# Altium schematic symbol library Inverting buck boost.SchLib: 104 symbols (part 5 of 9)
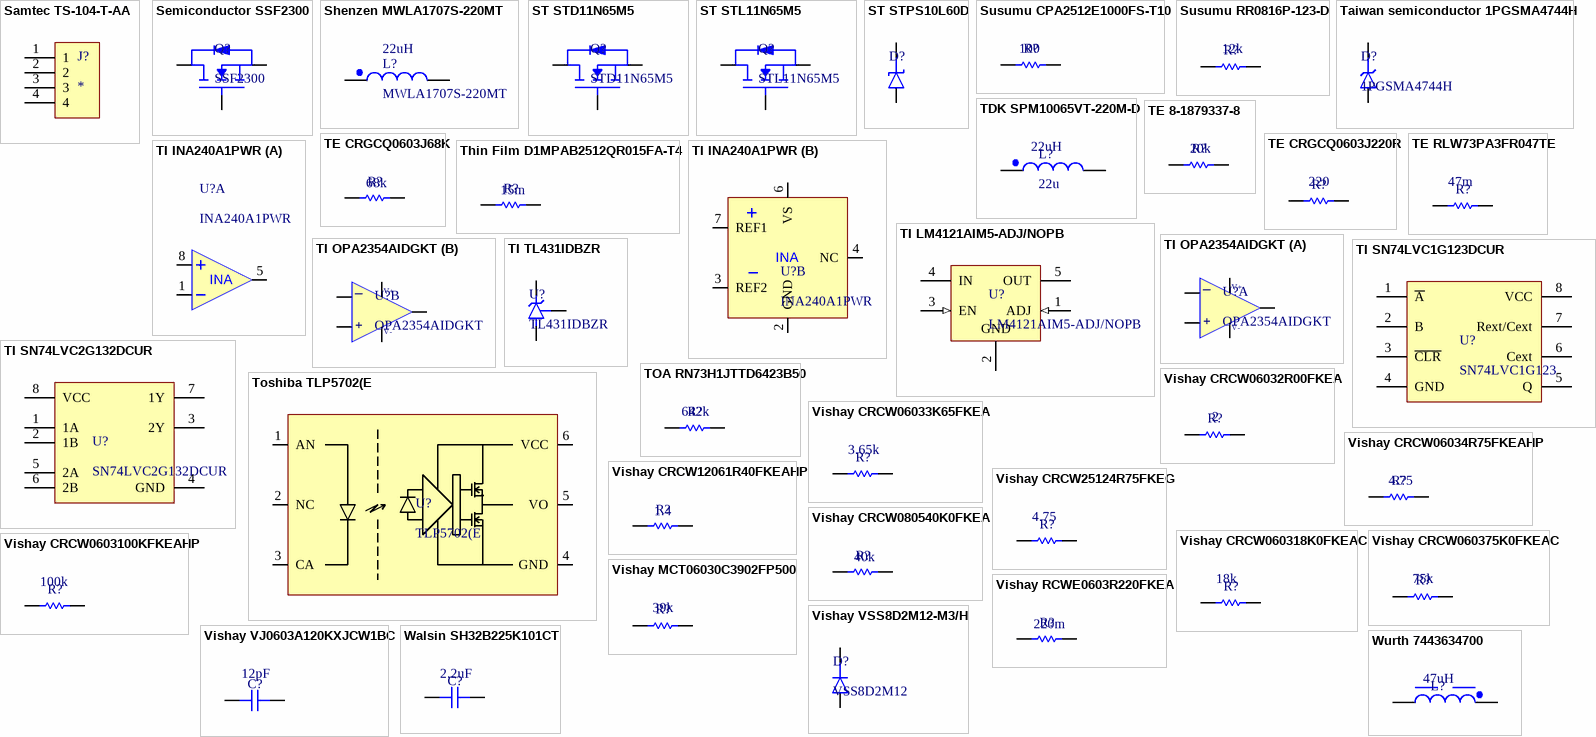
[diagram p6: symbols Samtec TS-104-T-AA to Wurth 7443634700]

## TI OPA2354AIDGKT
designator U?, comment OPA2354AIDGKT
250MHz, Rail-to-Rail I/O, CMOS Dual Operational Amplifier 8-VSSOP -40 to 125; Manufacturer: Texas Instruments; Manufacturer Part Number: OPA2354AIDGKR; Manufacturer Lifecycle Status: ACTIVE; Bandwidth: 100MHz; Common Mode Rejection Ratio: 56dB; Input Bias Current: 50pA; Input Offset Voltage (Vos): 8mV; Max Dual Supply Voltage: 2.75V; Max Supply Voltage: 5.5V; Min Dual Supply Voltage: 1.25V; Min Supply Voltage: 2.7V; Number of Amplifiers: 2; Operating Supply Current: 4.9mA; Operating Supply Voltage: 5V; Output Current per Channel: 100mA; Power Supply Rejection Ratio (PSRR): 73.98dB; Settling Time: 30ns; Slew Rate: 150V/µs; Voltage Gain: 110dB; Supplier: Arrow Electronics; Supplier Part Number: OPA2354AIDGKR; RoHS: Compliant; Category: Amplifiers - Op Amps, Buffer, Instrumentation; Stock: 405; Pricing: 1=3,4072, 10=2,642, 25=2,4277, 100=2,1887, 250=2,1187 (USD); -3db Bandwidth: 250MHz; Case/Package: VSSOP; Contact Plating: Gold; Gain Bandwidth Product: 100MHz; Height: 0m; Lead Free: Lead Free; Length: 3mm; Lifecycle Status: Production; Max I/O Voltage: 8mV; Max Operating Temperature: 125°C; Min Operating Temperature: -40°C; Number of Channels: 2; Number of Circuits: 2; Number of Elements: 2; Pins: 8; Packaging: Tape & Reel; Radiation Hardening: No; REACH SVHC: No; Schedule B: 8542330000, 8542330000|8542330000|8542330000|8542330000|8542330000; Thickness: 970µm; Weight: 25.996513mg; Width: 3mm; ComponentLink1URL: https://sigma.octopart.com:443/178522223/technical_drawing/Texas-Instruments-OPA2354AIDGKR.pdf?src-supplier=Texas+Instruments; ComponentLink1Description: https://sigma.octopart.com:443/178522223/technical_drawing/Texas-Instruments-OPA2354AIDGKR.pdf?src-supplier=Texas+Instruments; ComponentLink2URL: https://octopart.com:443/opatz8j6/c1?t=Pa_9qveCSp-teMjALlNzkgIwHySsEH1otGT4-ozlPtpgDBMeQt4RGdCXYLn_JCFP1QmrjeruCX46t5_9x1Vv_HMTe8N2kMCMJSKESAMrUlSEQkUUlvcrYWij36RLFxFIZ71Lc0yaeicxHxnXPoQU53aq-yWmIh8tbbINPdenUxvDlVVEa9B7WHzU_yp1bt2IvVJEFKXj11ElcUGRh8J0UxRLcVoULThUuFLrJzUTYUNzb_hUsr_lfzCjSS3L8z7PJpNcHNUUaHBHycr75X7YKBAE5ea9dFt3yqiIqO4iZzm6zpO_8qWc6W5q5mEQ-4UQhYYz8poDoqX8BFz8V-vYXWSk_wmgHIOJwbmA8UY43GJhW0_LIaHlWEHxuqfohlnhpKt4&src-supplier=Texas+Instruments; ComponentLink2Description: https://octopart.com:443/opatz8j6/c1?t=Pa_9qveCSp-teMjALlNzkgIwHySsEH1otGT4-ozlPtpgDBMeQt4RGdCXYLn_JCFP1QmrjeruCX46t5_9x1Vv_HMTe8N2kMCMJSKESAMrUlSEQkUUlvcrYWij36RLFxFIZ71Lc0yaeicxHxnXPoQU53aq-yWmIh8tbbINPdenUxvDlVVEa9B7WHzU_yp1bt2IvVJEFKXj11ElcUGRh8J0UxRLcVoULThUuFLrJzUTYUNzb_hUsr_lfzCjSS3L8z7PJpNcHNUUaHBHycr75X7YKBAE5ea9dFt3yqiIqO4iZzm6zpO_8qWc6W5q5mEQ-4UQhYYz8poDoqX8BFz8V-vYXWSk_wmgHIOJwbmA8UY43GJhW0_LIaHlWEHxuqfohlnhpKt4&src-supplier=Texas+Instruments; ComponentLink3URL: https://datasheet.octopart.com:443/OPA2354AIDGKR-Texas-Instruments-datasheet-148930.pdf?src-supplier=Texas+Instruments; ComponentLink3Description: https://datasheet.octopart.com:443/OPA2354AIDGKR-Texas-Instruments-datasheet-148930.pdf?src-supplier=Texas+Instruments; ComponentLink4URL: https://sigma.octopart.com:443/49250154/technical_drawing/Texas-Instruments-OPA2354AIDGKR.pdf?src-supplier=Texas+Instruments; ComponentLink4Description: https://sigma.octopart.com:443/49250154/technical_drawing/Texas-Instruments-OPA2354AIDGKR.pdf?src-supplier=Texas+Instruments; ComponentLink5URL: https://datasheet.octopart.com:443/OPA2354AIDGKR-Texas-Instruments-datasheet-65713369.pdf?src-supplier=Farnell; ComponentLink5Description: https://datasheet.octopart.com:443/OPA2354AIDGKR-Texas-Instruments-datasheet-65713369.pdf?src-supplier=Farnell; ComponentLink6URL: https://datasheet.octopart.com:443/OPA2354AIDGKR-Texas-Instruments-datasheet-11534205.pdf?src-supplier=HQonline; ComponentLink6Description: https://datasheet.octopart.com:443/OPA2354AIDGKR-Texas-Instruments-datasheet-11534205.pdf?src-supplier=HQonline; ComponentLink7URL: https://datasheet.octopart.com:443/OPA2354AIDGKR-Texas-Instruments-datasheet-159115581.pdf?src-supplier=LCSC; ComponentLink7Description: https://datasheet.octopart.com:443/OPA2354AIDGKR-Texas-Instruments-datasheet-159115581.pdf?src-supplier=LCSC; ComponentLink8URL: https://datasheet.octopart.com:443/OPA2354AIDGKR.-Texas-Instruments-datasheet-33010601.pdf?src-supplier=element14+APAC; ComponentLink8Description: https://datasheet.octopart.com:443/OPA2354AIDGKR.-Texas-Instruments-datasheet-33010601.pdf?src-supplier=element14+APAC; ComponentLink9URL: https://datasheet.octopart.com:443/OPA2354AIDGKR-Texas-Instruments-datasheet-21221028.pdf?src-supplier=Newark; ComponentLink9Description: https://datasheet.octopart.com:443/OPA2354AIDGKR-Texas-Instruments-datasheet-21221028.pdf?src-supplier=Newark; ComponentLink10URL: https://datasheet.octopart.com:443/OPA2354AIDGKR-Texas-Instruments-datasheet-21222707.pdf?src-supplier=Newark; ComponentLink10Description: https://datasheet.octopart.com:443/OPA2354AIDGKR-Texas-Instruments-datasheet-21222707.pdf?src-supplier=Newark; ComponentLink11URL: https://datasheet.octopart.com:443/OPA2354AIDGKR-Texas-Instruments-datasheet-14137483.pdf?src-supplier=iiiC; ComponentLink11Description: https://datasheet.octopart.com:443/OPA2354AIDGKR-Texas-Instruments-datasheet-14137483.pdf?src-supplier=iiiC; ComponentLink12URL: https://datasheet.octopart.com:443/OPA2354AIDGKR-Texas-Instruments-datasheet-11629923.pdf?src-supplier=Arrow+Electronics; ComponentLink12Description: https://datasheet.octopart.com:443/OPA2354AIDGKR-Texas-Instruments-datasheet-11629923.pdf?src-supplier=Arrow+Electronics; ComponentLink13URL: https://datasheet.octopart.com:443/OPA2354AIDGKR-Texas-Instruments-datasheet-111724.pdf?src-supplier=Sierra+IC; ComponentLink13Description: https://datasheet.octopart.com:443/OPA2354AIDGKR-Texas-Instruments-datasheet-111724.pdf?src-supplier=Sierra+IC; ComponentLink14URL: https://datasheet.octopart.com:443/OPA2354AIDGKR-Texas-Instruments-datasheet-38628.pdf?src-supplier=DigiKey; ComponentLink14Description: https://datasheet.octopart.com:443/OPA2354AIDGKR-Texas-Instruments-datasheet-38628.pdf?src-supplier=DigiKey; ComponentLink15URL: http://sigma.octopart.com:80/reach_statement/Texas-Instruments-company-64.pdf?src-supplier=Compliance+Statements; ComponentLink15Description: http://sigma.octopart.com:80/reach_statement/Texas-Instruments-company-64.pdf?src-supplier=Compliance+Statements; ComponentLink16URL: http://sigma.octopart.com:80/conflict_mineral_statement/Texas-Instruments-company-63.pdf?src-supplier=Compliance+Statements; ComponentLink16Description: http://sigma.octopart.com:80/conflict_mineral_statement/Texas-Instruments-company-63.pdf?src-supplier=Compliance+Statements
footprint TSOP, 8-Leads (Body 3.1x3.1mm, Pitch 0.65mm)
part A pins: 1 OUT, 2 IN+, 3 IN-, 4 V-, 8 V+
part B pins: 4 V-, 5 IN-, 6 IN+, 7 OUT, 8 V+
part A text: _; +
part B text: _; +

## TI SN74LVC1G123DCUR
designator U?, comment SN74LVC1G123
Single retriggerable monostable multivibrator with Schmitt-trigger inputs 8-VSSOP -40 to 125; Manufacturer: Texas Instruments; Manufacturer Part Number: SN74LVC1G123DCUR; Manufacturer Lifecycle Status: ACTIVE; High Level Output Current: -32mA; Independent Circuits: 1; Low Level Output Current: 32mA; Max Supply Current: 20µA; Max Supply Voltage: 5.5V; Min Supply Voltage: 1.5V; Number of Inputs: 2; Operating Supply Voltage: 5V; Output Current: 50mA; Propagation Delay: 8.2ns; Schmitt Trigger Input: Yes; Turn-On Delay Time: 18.6ns; Supplier: DigiKey; Supplier Part Number: 296-18578-1-ND; RoHS: Compliant; Category: Multivibrators; Pricing: 1=1,35, 10=0,979, 25=0,8868, 100=0,7857, 250=0,73748, 500=0,7191 (USD); Ambient Temperature Range High: 125°C; Case/Package: VSSOP; Contact Plating: Gold; Height: 900µm; Lead Free: Lead Free; Length: 2.3mm; Lifecycle Status: Production; Logic Function: Multivibrator; Max Operating Temperature: 125°C; Min Operating Temperature: -40°C; Mounting Technology: Surface Mount; Number of Bits: 1; Number of Channels: 1; Number of Circuits: 1; Number of Elements: 1; Number of Outputs: 1; Pins: 8; Packaging: Cut Tape; Quiescent Current: 20µA; Radiation Hardening: No; REACH SVHC: No; Schedule B: 8542390000, 8542390000|8542390000|8542390000|8542390000|8542390000|8542390000|8542390000|8542390000|8542390000|8542390000|8542390000|8542390000|8542390000|8542390000|8542390000|8542390000|8542390000|8542390000|8542390000|8542390000|8542390000|8542390000|8542390000|85; Thickness: 850µm; Weight: 9.610488mg; Width: 2mm; ComponentLink1URL: https://sigma.octopart.com:443/167215082/technical_drawing/Texas-Instruments-SN74LVC1G123DCUR.pdf?src-supplier=Texas+Instruments; ComponentLink1Description: https://sigma.octopart.com:443/167215082/technical_drawing/Texas-Instruments-SN74LVC1G123DCUR.pdf?src-supplier=Texas+Instruments; ComponentLink2URL: https://octopart.com:443/opatz8j6/c1?t=n_fj5RPNHgWJn-fIAghX4cny0sbFoMMjoesAMqocVMpXaQDqpBsjBT1GJKZBsxw_STcCp5G4kwnKmlBTyHV3O9PyOTB6O-nccl63CCh-Jzq2YYcs5B_OdZggVhRk2N_tuhYi8ZNUi7kwNjyKB0fMgoynCN9uNWe1hvWVLEQ6W185Sz4YeGwVA567UY9FzGdURNODUKoe1l6S4pdebDOplCzjyZH4KwSx6kPuk87sJlWbiIVW1AN5VQlF6jdha2zYaH4bePnb42lLDbuYH42-v4M-5hsJe31Qnxu0c94xEXvz2RKb29Iju4-DhIHoIrvsF3f5Cfn0tP11-Py_jycrA_EZkptVG4siqhKe7FjYdmgEw4Uf1H2m47JZ605DKYGK_CBTGz3HQw&src-supplier=Texas+Instruments; ComponentLink2Description: https://octopart.com:443/opatz8j6/c1?t=n_fj5RPNHgWJn-fIAghX4cny0sbFoMMjoesAMqocVMpXaQDqpBsjBT1GJKZBsxw_STcCp5G4kwnKmlBTyHV3O9PyOTB6O-nccl63CCh-Jzq2YYcs5B_OdZggVhRk2N_tuhYi8ZNUi7kwNjyKB0fMgoynCN9uNWe1hvWVLEQ6W185Sz4YeGwVA567UY9FzGdURNODUKoe1l6S4pdebDOplCzjyZH4KwSx6kPuk87sJlWbiIVW1AN5VQlF6jdha2zYaH4bePnb42lLDbuYH42-v4M-5hsJe31Qnxu0c94xEXvz2RKb29Iju4-DhIHoIrvsF3f5Cfn0tP11-Py_jycrA_EZkptVG4siqhKe7FjYdmgEw4Uf1H2m47JZ605DKYGK_CBTGz3HQw&src-supplier=Texas+Instruments; ComponentLink3URL: https://datasheet.octopart.com:443/SN74LVC1G123DCUR-Texas-Instruments-datasheet-10255335.pdf?src-supplier=Texas+Instruments; ComponentLink3Description: https://datasheet.octopart.com:443/SN74LVC1G123DCUR-Texas-Instruments-datasheet-10255335.pdf?src-supplier=Texas+Instruments; ComponentLink4URL: https://datasheet.octopart.com:443/SN74LVC1G123DCUR-Texas-Instruments-datasheet-149469.pdf?src-supplier=Texas+Instruments; ComponentLink4Description: https://datasheet.octopart.com:443/SN74LVC1G123DCUR-Texas-Instruments-datasheet-149469.pdf?src-supplier=Texas+Instruments; ComponentLink5URL: https://sigma.octopart.com:443/49249948/technical_drawing/Texas-Instruments-SN74LVC1G123DCUR.pdf?src-supplier=Texas+Instruments; ComponentLink5Description: https://sigma.octopart.com:443/49249948/technical_drawing/Texas-Instruments-SN74LVC1G123DCUR.pdf?src-supplier=Texas+Instruments; ComponentLink6URL: https://datasheet.octopart.com:443/SN74LVC1G123DCUR-Texas-Instruments-datasheet-21094337.pdf?src-supplier=Farnell; ComponentLink6Description: https://datasheet.octopart.com:443/SN74LVC1G123DCUR-Texas-Instruments-datasheet-21094337.pdf?src-supplier=Farnell; ComponentLink7URL: https://datasheet.octopart.com:443/SN74LVC1G123DCUR.-Texas-Instruments-datasheet-37730660.pdf?src-supplier=Farnell; ComponentLink7Description: https://datasheet.octopart.com:443/SN74LVC1G123DCUR.-Texas-Instruments-datasheet-37730660.pdf?src-supplier=Farnell; ComponentLink8URL: https://datasheet.octopart.com:443/SN74LVC1G123DCUR-Texas-Instruments-datasheet-32026718.pdf?src-supplier=Farnell; ComponentLink8Description: https://datasheet.octopart.com:443/SN74LVC1G123DCUR-Texas-Instruments-datasheet-32026718.pdf?src-supplier=Farnell; ComponentLink9URL: https://datasheet.octopart.com:443/SN74LVC1G123DCUR-Texas-Instruments-datasheet-17022321.pdf?src-supplier=Upverter; ComponentLink9Description: https://datasheet.octopart.com:443/SN74LVC1G123DCUR-Texas-Instruments-datasheet-17022321.pdf?src-supplier=Upverter; ComponentLink10URL: https://datasheet.octopart.com:443/SN74LVC1G123DCUR-Texas-Instruments-datasheet-62115999.pdf?src-supplier=element14+APAC; ComponentLink10Description: https://datasheet.octopart.com:443/SN74LVC1G123DCUR-Texas-Instruments-datasheet-62115999.pdf?src-supplier=element14+APAC; ComponentLink11URL: https://datasheet.octopart.com:443/SN74LVC1G123DCUR-Texas-Instruments-datasheet-33011000.pdf?src-supplier=element14+APAC; ComponentLink11Description: https://datasheet.octopart.com:443/SN74LVC1G123DCUR-Texas-Instruments-datasheet-33011000.pdf?src-supplier=element14+APAC; ComponentLink12URL: https://datasheet.octopart.com:443/SN74LVC1G123DCUR-Texas-Instruments-datasheet-10854746.pdf?src-supplier=Newark; ComponentLink12Description: https://datasheet.octopart.com:443/SN74LVC1G123DCUR-Texas-Instruments-datasheet-10854746.pdf?src-supplier=Newark; ComponentLink13URL: https://datasheet.octopart.com:443/SN74LVC1G123DCUR-Texas-Instruments-datasheet-7621638.pdf?src-supplier=Newark; ComponentLink13Description: https://datasheet.octopart.com:443/SN74LVC1G123DCUR-Texas-Instruments-datasheet-7621638.pdf?src-supplier=Newark; ComponentLink14URL: https://datasheet.octopart.com:443/SN74LVC1G123DCUR-Texas-Instruments-datasheet-5394187.pdf?src-supplier=Newark; ComponentLink14Description: https://datasheet.octopart.com:443/SN74LVC1G123DCUR-Texas-Instruments-datasheet-5394187.pdf?src-supplier=Newark; ComponentLink15URL: https://datasheet.octopart.com:443/SN74LVC1G123DCUR-Texas-Instruments-datasheet-159116636.pdf?src-supplier=LCSC; ComponentLink15Description: https://datasheet.octopart.com:443/SN74LVC1G123DCUR-Texas-Instruments-datasheet-159116636.pdf?src-supplier=LCSC; ComponentLink16URL: https://datasheet.octopart.com:443/SN74LVC1G123DCUR-Texas-Instruments-datasheet-151190429.pdf?src-supplier=SHENGYU+ELECTRONICS; ComponentLink16Description: https://datasheet.octopart.com:443/SN74LVC1G123DCUR-Texas-Instruments-datasheet-151190429.pdf?src-supplier=SHENGYU+ELECTRONICS; ComponentLink17URL: https://datasheet.octopart.com:443/SN74LVC1G123DCUR-Texas-Instruments-datasheet-8197537.pdf?src-supplier=Jameco; ComponentLink17Description: https://datasheet.octopart.com:443/SN74LVC1G123DCUR-Texas-Instruments-datasheet-8197537.pdf?src-supplier=Jameco; ComponentLink18URL: https://datasheet.octopart.com:443/SN74LVC1G123DCUR-Texas-Instruments-datasheet-33954.pdf?src-supplier=DigiKey; ComponentLink18Description: https://datasheet.octopart.com:443/SN74LVC1G123DCUR-Texas-Instruments-datasheet-33954.pdf?src-supplier=DigiKey; ComponentLink19URL: https://datasheet.octopart.com:443/SN74LVC1G123DCUR-Texas-Instruments-datasheet-116326.pdf?src-supplier=Sierra+IC; ComponentLink19Description: https://datasheet.octopart.com:443/SN74LVC1G123DCUR-Texas-Instruments-datasheet-116326.pdf?src-supplier=Sierra+IC; ComponentLink20URL: http://sigma.octopart.com:80/reach_statement/Texas-Instruments-company-64.pdf?src-supplier=Compliance+Statements; ComponentLink20Description: http://sigma.octopart.com:80/reach_statement/Texas-Instruments-company-64.pdf?src-supplier=Compliance+Statements; ComponentLink21URL: http://sigma.octopart.com:80/conflict_mineral_statement/Texas-Instruments-company-63.pdf?src-supplier=Compliance+Statements; ComponentLink21Description: http://sigma.octopart.com:80/conflict_mineral_statement/Texas-Instruments-company-63.pdf?src-supplier=Compliance+Statements
footprint 8-VSSOP
pins: 1 ~{A}, 2 B, 3 ~{CLR}, 4 GND (power), 5 Q, 6 Cext, 7 Rext/Cext, 8 VCC (power)

## TI SN74LVC2G132DCUR
designator U?, comment SN74LVC2G132DCUR
2-ch, 2-input, 1.65-V to 5.5-V NAND gates with Schmitt-Trigger inputs 8-VSSOP -40 to 125; Manufacturer: Texas Instruments; Manufacturer Lifecycle Status: ACTIVE; Frequency: 10MHz; High Level Output Current: -32mA; Logic Function: Inverting; Low Level Output Current: 32mA; Max Supply Voltage: 5.5V; Min Supply Voltage: 1.65V; Nominal Supply Current: 10µA; Number of Bits: 2; Number of Inputs: 4; Number of Output Lines: 1; Output Current: 50mA; Propagation Delay: 5ns; Turn-On Delay Time: 6ns; Supplier: DigiKey; Supplier Part Number: 296-18802-1-ND; Manufacturer Part Number: SN74LVC2G132DCUR; RoHS: Compliant; Category: Logic Gates; Stock: 13934; Pricing: 1=0,41, 10=0,283, 25=0,2516, 100=0,2178, 250=0,20156, 500=0,19182, 1000=0,18377 (USD); Ambient Temperature Range High: 125°C; Case/Package: VSSOP; Contact Plating: Gold; Height: 900µm; Lead Free: Lead Free; Length: 2.3mm; Lifecycle Status: Production; Max Operating Temperature: 125°C; Min Operating Temperature: -40°C; Mounting Technology: Surface Mount; Number of Channels: 2; Number of Circuits: 2; Number of Elements: 2; Number of Gates: 2; Number of Input Lines: 2; Number of Outputs: 2; Pins: 8; Packaging: Cut Tape; Quiescent Current: 10µA; Radiation Hardening: No; REACH SVHC: No; Schedule B: 8542390000, 8542390000|8542390000, 8542390000|8542390000|8542390000, 8542390000|8542390000|8542390000|8542390000; Thickness: 850µm; Weight: 9.610488mg; Width: 2mm; ComponentLink1URL: https://sigma.octopart.com:443/167215082/technical_drawing/Texas-Instruments-SN74LVC2G132DCUR.pdf?src-supplier=Texas+Instruments; ComponentLink1Description: https://sigma.octopart.com:443/167215082/technical_drawing/Texas-Instruments-SN74LVC2G132DCUR.pdf?src-supplier=Texas+Instruments; ComponentLink2URL: https://octopart.com:443/opatz8j6/c1?t=dlLK3MRuxZ8-avrxMu5rxZmNhXQUiX2B0OyCF8DuAQvboW787mL228dgpibN22RUDHDl721KVNhVPMfSgh7ykVaRYJWydkx1mEa2bu9jbzaW3gLtwz_epjnJfasCWsLPAVM-hDv45KQqq4reNUai-gbLUwgXAqd2oetgMCZ8G4xihaqSuuqUBbzq4sKhfnsxFN7qau3BJOhm9KaFJ5o60V3QDGlN9pKGhgXh3Tarf94GHy6Lon0BV2sa2c2JDr6VbNTT_lTAXjau2Ji5j9fHwObcS2wwxBZa2CMqBDpZztCkKpJR2t9xwwNEbplJl1D3Ll7ulXV-5eVsJoDPHFKu2QDykVyyaZiPYygZg-MYKanKw_kIaILyTRRCZfgNEV9ZcMujTaeRstI&src-supplier=Texas+Instruments; ComponentLink2Description: https://octopart.com:443/opatz8j6/c1?t=dlLK3MRuxZ8-avrxMu5rxZmNhXQUiX2B0OyCF8DuAQvboW787mL228dgpibN22RUDHDl721KVNhVPMfSgh7ykVaRYJWydkx1mEa2bu9jbzaW3gLtwz_epjnJfasCWsLPAVM-hDv45KQqq4reNUai-gbLUwgXAqd2oetgMCZ8G4xihaqSuuqUBbzq4sKhfnsxFN7qau3BJOhm9KaFJ5o60V3QDGlN9pKGhgXh3Tarf94GHy6Lon0BV2sa2c2JDr6VbNTT_lTAXjau2Ji5j9fHwObcS2wwxBZa2CMqBDpZztCkKpJR2t9xwwNEbplJl1D3Ll7ulXV-5eVsJoDPHFKu2QDykVyyaZiPYygZg-MYKanKw_kIaILyTRRCZfgNEV9ZcMujTaeRstI&src-supplier=Texas+Instruments; ComponentLink3URL: https://datasheet.octopart.com:443/SN74LVC2G132DCUR-Texas-Instruments-datasheet-21772640.pdf?src-supplier=Texas+Instruments; ComponentLink3Description: https://datasheet.octopart.com:443/SN74LVC2G132DCUR-Texas-Instruments-datasheet-21772640.pdf?src-supplier=Texas+Instruments; ComponentLink4URL: https://datasheet.octopart.com:443/SN74LVC2G132DCUR-Texas-Instruments-datasheet-10254462.pdf?src-supplier=Texas+Instruments; ComponentLink4Description: https://datasheet.octopart.com:443/SN74LVC2G132DCUR-Texas-Instruments-datasheet-10254462.pdf?src-supplier=Texas+Instruments; ComponentLink5URL: https://datasheet.octopart.com:443/SN74LVC2G132DCUR-Texas-Instruments-datasheet-151477.pdf?src-supplier=Texas+Instruments; ComponentLink5Description: https://datasheet.octopart.com:443/SN74LVC2G132DCUR-Texas-Instruments-datasheet-151477.pdf?src-supplier=Texas+Instruments; ComponentLink6URL: https://sigma.octopart.com:443/49249948/technical_drawing/Texas-Instruments-SN74LVC2G132DCUR.pdf?src-supplier=Texas+Instruments; ComponentLink6Description: https://sigma.octopart.com:443/49249948/technical_drawing/Texas-Instruments-SN74LVC2G132DCUR.pdf?src-supplier=Texas+Instruments; ComponentLink7URL: https://datasheet.octopart.com:443/SN74LVC2G132DCUR-Texas-Instruments-datasheet-65713492.pdf?src-supplier=element14+APAC; ComponentLink7Description: https://datasheet.octopart.com:443/SN74LVC2G132DCUR-Texas-Instruments-datasheet-65713492.pdf?src-supplier=element14+APAC; ComponentLink8URL: https://datasheet.octopart.com:443/SN74LVC2G132DCUR.-Texas-Instruments-datasheet-62088896.pdf?src-supplier=element14+APAC; ComponentLink8Description: https://datasheet.octopart.com:443/SN74LVC2G132DCUR.-Texas-Instruments-datasheet-62088896.pdf?src-supplier=element14+APAC; ComponentLink9URL: https://datasheet.octopart.com:443/SN74LVC2G132DCUR-Texas-Instruments-datasheet-37732373.pdf?src-supplier=element14+APAC; ComponentLink9Description: https://datasheet.octopart.com:443/SN74LVC2G132DCUR-Texas-Instruments-datasheet-37732373.pdf?src-supplier=element14+APAC; ComponentLink10URL: https://datasheet.octopart.com:443/SN74LVC2G132DCUR-Texas-Instruments-datasheet-17022353.pdf?src-supplier=Farnell; ComponentLink10Description: https://datasheet.octopart.com:443/SN74LVC2G132DCUR-Texas-Instruments-datasheet-17022353.pdf?src-supplier=Farnell; ComponentLink11URL: https://datasheet.octopart.com:443/SN74LVC2G132DCUR.-Texas-Instruments-datasheet-37732357.pdf?src-supplier=Farnell; ComponentLink11Description: https://datasheet.octopart.com:443/SN74LVC2G132DCUR.-Texas-Instruments-datasheet-37732357.pdf?src-supplier=Farnell; ComponentLink12URL: https://datasheet.octopart.com:443/SN74LVC2G132DCUR-Texas-Instruments-datasheet-32750705.pdf?src-supplier=Farnell; ComponentLink12Description: https://datasheet.octopart.com:443/SN74LVC2G132DCUR-Texas-Instruments-datasheet-32750705.pdf?src-supplier=Farnell; ComponentLink13URL: https://datasheet.octopart.com:443/SN74LVC2G132DCUR-Texas-Instruments-datasheet-32026730.pdf?src-supplier=Farnell; ComponentLink13Description: https://datasheet.octopart.com:443/SN74LVC2G132DCUR-Texas-Instruments-datasheet-32026730.pdf?src-supplier=Farnell; ComponentLink14URL: https://datasheet.octopart.com:443/SN74LVC2G132DCUR-Texas-Instruments-datasheet-24897066.pdf?src-supplier=Farnell; ComponentLink14Description: https://datasheet.octopart.com:443/SN74LVC2G132DCUR-Texas-Instruments-datasheet-24897066.pdf?src-supplier=Farnell; ComponentLink15URL: https://datasheet.octopart.com:443/SN74LVC2G132DCUR-Texas-Instruments-datasheet-160738798.pdf?src-supplier=SHENGYU+ELECTRONICS; ComponentLink15Description: https://datasheet.octopart.com:443/SN74LVC2G132DCUR-Texas-Instruments-datasheet-160738798.pdf?src-supplier=SHENGYU+ELECTRONICS; ComponentLink16URL: https://datasheet.octopart.com:443/SN74LVC2G132DCUR-Texas-Instruments-datasheet-33011025.pdf?src-supplier=Newark; ComponentLink16Description: https://datasheet.octopart.com:443/SN74LVC2G132DCUR-Texas-Instruments-datasheet-33011025.pdf?src-supplier=Newark; ComponentLink17URL: https://datasheet.octopart.com:443/SN74LVC2G132DCUR-Texas-Instruments-datasheet-14148001.pdf?src-supplier=iiiC; ComponentLink17Description: https://datasheet.octopart.com:443/SN74LVC2G132DCUR-Texas-Instruments-datasheet-14148001.pdf?src-supplier=iiiC; ComponentLink18URL: https://datasheet.octopart.com:443/SN74LVC2G132DCUR-Texas-Instruments-datasheet-11549827.pdf?src-supplier=Arrow+Electronics; ComponentLink18Description: https://datasheet.octopart.com:443/SN74LVC2G132DCUR-Texas-Instruments-datasheet-11549827.pdf?src-supplier=Arrow+Electronics; ComponentLink19URL: https://datasheet.octopart.com:443/SN74LVC2G132DCUR-Texas-Instruments-datasheet-58692.pdf?src-supplier=DigiKey; ComponentLink19Description: https://datasheet.octopart.com:443/SN74LVC2G132DCUR-Texas-Instruments-datasheet-58692.pdf?src-supplier=DigiKey; ComponentLink20URL: https://datasheet.octopart.com:443/SN74LVC2G132DCUR-Texas-Instruments-datasheet-116307.pdf?src-supplier=Sierra+IC; ComponentLink20Description: https://datasheet.octopart.com:443/SN74LVC2G132DCUR-Texas-Instruments-datasheet-116307.pdf?src-supplier=Sierra+IC; ComponentLink21URL: http://sigma.octopart.com:80/reach_statement/Texas-Instruments-company-64.pdf?src-supplier=Compliance+Statements; ComponentLink21Description: http://sigma.octopart.com:80/reach_statement/Texas-Instruments-company-64.pdf?src-supplier=Compliance+Statements; ComponentLink22URL: http://sigma.octopart.com:80/conflict_mineral_statement/Texas-Instruments-company-63.pdf?src-supplier=Compliance+Statements; ComponentLink22Description: http://sigma.octopart.com:80/conflict_mineral_statement/Texas-Instruments-company-63.pdf?src-supplier=Compliance+Statements
footprint 8-VSSOP
pins: 1 1A (oc), 2 1B (oc), 3 2Y, 4 GND (power), 5 2A (oc), 6 2B (oc), 7 1Y, 8 VCC (power)

## TI TL431IDBZR
designator U?, comment TL431IDBZR
V-Ref Adjustable 2.495V to 36V 100mA Automotive 3-Pin SOT-23 T/R; Manufacturer: Texas Instruments; Manufacturer Lifecycle Status: ACTIVE; Cathode Current: 1mA; Max Supply Voltage: 37V; Number of Channels: 1; Reference Type: Adjustable, Shunt; Temperature Coefficient: 34ppm/°C; Tolerance: 2%; Supplier: Arrow Electronics; Supplier Part Number: TL431IDBZR; Manufacturer Part Number: TL431IDBZR; RoHS: Compliant; Category: Voltage References; Stock: 51000; Pricing: 3000=0,0918, 6000=0,0907, 9000=0,0882, 15000=0,0874, 21000=0,0865, 30000=0,0823 (USD); Case/Package: SOT-23; Height: 1.22mm; Lead Free: Lead Free; Length: 2.92mm; Lifecycle Status: Production; Max Operating Temperature: 85°C; Max Output current: 100mA; Max Output Voltage: 36V; Min Input Voltage: 2.495V; Min Operating Temperature: -40°C; Pins: 3; Output Current: 100mA; Output Voltage: 36V; Packaging: Cut Tape; Radiation Hardening: No; REACH SVHC: No; Reference Voltage: 36V; Schedule B: 8542390000, 8542390000|8542390000|8542390000|8542390000|8542390000; Thickness: 1mm; Weight: 1.437803g; Width: 1.3mm; ComponentLink1URL: https://sigma.octopart.com:443/179129137/technical_drawing/Texas-Instruments-TL431IDBZR.pdf?src-supplier=Texas+Instruments; ComponentLink1Description: https://sigma.octopart.com:443/179129137/technical_drawing/Texas-Instruments-TL431IDBZR.pdf?src-supplier=Texas+Instruments; ComponentLink2URL: https://octopart.com:443/opatz8j6/c1?t=rW6bIrba_jbvmB_uabgQ4DHQ_8bXebmw5n36TFgajg_cM10sTUMOa3c0_aROWTzNuODAPxgdzkUCyLMyjqW5ECfNLnsPaaELSSqte_UXEwTAXn63sCq0zOIbeu3rbiILGc0xAKExe2TPYtg5Ms4ml5aZB-hP2d9WeynMm8uqMp-0nIZVL-dEP5eqV8i1QpquQEXyisrE4V8pFSHbvg01nxHcb9gAO0LAPA1OgW6fj5N8dHmskhhoOlj6gaEdyF9jXEJmJUbnrXDzuao32M8w1z1jkibRnCgcbwk3b-Z8PYiflKC4Jzxffmw6AAaWjNeE2_Iqkn9MenYhHERA89N4870fEFKw1TPybVjTNvPhj-8IMEBDTyhXkE4nZuLn3P6NpQ&src-supplier=Texas+Instruments; ComponentLink2Description: https://octopart.com:443/opatz8j6/c1?t=rW6bIrba_jbvmB_uabgQ4DHQ_8bXebmw5n36TFgajg_cM10sTUMOa3c0_aROWTzNuODAPxgdzkUCyLMyjqW5ECfNLnsPaaELSSqte_UXEwTAXn63sCq0zOIbeu3rbiILGc0xAKExe2TPYtg5Ms4ml5aZB-hP2d9WeynMm8uqMp-0nIZVL-dEP5eqV8i1QpquQEXyisrE4V8pFSHbvg01nxHcb9gAO0LAPA1OgW6fj5N8dHmskhhoOlj6gaEdyF9jXEJmJUbnrXDzuao32M8w1z1jkibRnCgcbwk3b-Z8PYiflKC4Jzxffmw6AAaWjNeE2_Iqkn9MenYhHERA89N4870fEFKw1TPybVjTNvPhj-8IMEBDTyhXkE4nZuLn3P6NpQ&src-supplier=Texas+Instruments; ComponentLink3URL: https://sigma.octopart.com:443/169406038/technical_drawing/Texas-Instruments-TL431IDBZR.pdf?src-supplier=Texas+Instruments; ComponentLink3Description: https://sigma.octopart.com:443/169406038/technical_drawing/Texas-Instruments-TL431IDBZR.pdf?src-supplier=Texas+Instruments; ComponentLink4URL: https://sigma.octopart.com:443/80351974/technical_drawing/Texas-Instruments-TL431IDBZR.pdf?src-supplier=Texas+Instruments; ComponentLink4Description: https://sigma.octopart.com:443/80351974/technical_drawing/Texas-Instruments-TL431IDBZR.pdf?src-supplier=Texas+Instruments; ComponentLink5URL: https://sigma.octopart.com:443/78374974/technical_drawing/Texas-Instruments-TL431IDBZR.pdf?src-supplier=Texas+Instruments; ComponentLink5Description: https://sigma.octopart.com:443/78374974/technical_drawing/Texas-Instruments-TL431IDBZR.pdf?src-supplier=Texas+Instruments; ComponentLink6URL: https://datasheet.octopart.com:443/TL431IDBZR-Texas-Instruments-datasheet-41217836.pdf?src-supplier=Texas+Instruments; ComponentLink6Description: https://datasheet.octopart.com:443/TL431IDBZR-Texas-Instruments-datasheet-41217836.pdf?src-supplier=Texas+Instruments; ComponentLink7URL: https://datasheet.octopart.com:443/TL431IDBZR-Texas-Instruments-datasheet-37140784.pdf?src-supplier=Texas+Instruments; ComponentLink7Description: https://datasheet.octopart.com:443/TL431IDBZR-Texas-Instruments-datasheet-37140784.pdf?src-supplier=Texas+Instruments; ComponentLink8URL: https://datasheet.octopart.com:443/TL431IDBZR-Texas-Instruments-datasheet-22066926.pdf?src-supplier=Texas+Instruments; ComponentLink8Description: https://datasheet.octopart.com:443/TL431IDBZR-Texas-Instruments-datasheet-22066926.pdf?src-supplier=Texas+Instruments; ComponentLink9URL: https://datasheet.octopart.com:443/TL431IDBZR-Texas-Instruments-datasheet-11514612.pdf?src-supplier=Texas+Instruments; ComponentLink9Description: https://datasheet.octopart.com:443/TL431IDBZR-Texas-Instruments-datasheet-11514612.pdf?src-supplier=Texas+Instruments; ComponentLink10URL: https://datasheet.octopart.com:443/TL431IDBZR-Texas-Instruments-datasheet-149617.pdf?src-supplier=Texas+Instruments; ComponentLink10Description: https://datasheet.octopart.com:443/TL431IDBZR-Texas-Instruments-datasheet-149617.pdf?src-supplier=Texas+Instruments; ComponentLink11URL: https://sigma.octopart.com:443/49250660/technical_drawing/Texas-Instruments-TL431IDBZR.pdf?src-supplier=Texas+Instruments; ComponentLink11Description: https://sigma.octopart.com:443/49250660/technical_drawing/Texas-Instruments-TL431IDBZR.pdf?src-supplier=Texas+Instruments; ComponentLink12URL: https://datasheet.octopart.com:443/TL431IDBZR-Texas-Instruments-datasheet-10255933.pdf?src-supplier=Texas+Instruments; ComponentLink12Description: https://datasheet.octopart.com:443/TL431IDBZR-Texas-Instruments-datasheet-10255933.pdf?src-supplier=Texas+Instruments; ComponentLink13URL: https://datasheet.octopart.com:443/TL431IDBZR-Texas-Instruments-datasheet-81843928.pdf?src-supplier=Upverter; ComponentLink13Description: https://datasheet.octopart.com:443/TL431IDBZR-Texas-Instruments-datasheet-81843928.pdf?src-supplier=Upverter; ComponentLink14URL: https://datasheet.octopart.com:443/TL431IDBZR-Texas-Instruments-datasheet-14437413.pdf?src-supplier=Upverter; ComponentLink14Description: https://datasheet.octopart.com:443/TL431IDBZR-Texas-Instruments-datasheet-14437413.pdf?src-supplier=Upverter; ComponentLink15URL: https://datasheet.octopart.com:443/TL431IDBZR-Texas-Instruments-datasheet-66581701.pdf?src-supplier=Farnell; ComponentLink15Description: https://datasheet.octopart.com:443/TL431IDBZR-Texas-Instruments-datasheet-66581701.pdf?src-supplier=Farnell; ComponentLink16URL: https://datasheet.octopart.com:443/TL431IDBZR-Texas-Instruments-datasheet-165804567.pdf?src-supplier=LCSC; ComponentLink16Description: https://datasheet.octopart.com:443/TL431IDBZR-Texas-Instruments-datasheet-165804567.pdf?src-supplier=LCSC; ComponentLink17URL: https://datasheet.octopart.com:443/TL431IDBZR-Texas-Instruments-datasheet-159117715.pdf?src-supplier=LCSC; ComponentLink17Description: https://datasheet.octopart.com:443/TL431IDBZR-Texas-Instruments-datasheet-159117715.pdf?src-supplier=LCSC; ComponentLink18URL: https://datasheet.octopart.com:443/TL431IDBZR-Texas-Instruments-datasheet-164418451.pdf?src-supplier=SHENGYU+ELECTRONICS; ComponentLink18Description: https://datasheet.octopart.com:443/TL431IDBZR-Texas-Instruments-datasheet-164418451.pdf?src-supplier=SHENGYU+ELECTRONICS; ComponentLink19URL: https://datasheet.octopart.com:443/TL431IDBZR-Texas-Instruments-datasheet-95954503.pdf?src-supplier=TME; ComponentLink19Description: https://datasheet.octopart.com:443/TL431IDBZR-Texas-Instruments-datasheet-95954503.pdf?src-supplier=TME; ComponentLink20URL: https://datasheet.octopart.com:443/TL431IDBZR-Texas-Instruments-datasheet-137316104.pdf?src-supplier=Future+Electronics; ComponentLink20Description: https://datasheet.octopart.com:443/TL431IDBZR-Texas-Instruments-datasheet-137316104.pdf?src-supplier=Future+Electronics; ComponentLink21URL: https://datasheet.octopart.com:443/TL431IDBZR-Texas-Instruments-datasheet-38226331.pdf?src-supplier=Newark; ComponentLink21Description: https://datasheet.octopart.com:443/TL431IDBZR-Texas-Instruments-datasheet-38226331.pdf?src-supplier=Newark; ComponentLink22URL: https://datasheet.octopart.com:443/TL431IDBZR-Texas-Instruments-datasheet-37140351.pdf?src-supplier=Newark; ComponentLink22Description: https://datasheet.octopart.com:443/TL431IDBZR-Texas-Instruments-datasheet-37140351.pdf?src-supplier=Newark; ComponentLink23URL: https://datasheet.octopart.com:443/TL431IDBZR-Texas-Instruments-datasheet-33011757.pdf?src-supplier=Newark; ComponentLink23Description: https://datasheet.octopart.com:443/TL431IDBZR-Texas-Instruments-datasheet-33011757.pdf?src-supplier=Newark; ComponentLink24URL: https://datasheet.octopart.com:443/TL431IDBZR-Texas-Instruments-datasheet-10882568.pdf?src-supplier=Arrow+Electronics; ComponentLink24Description: https://datasheet.octopart.com:443/TL431IDBZR-Texas-Instruments-datasheet-10882568.pdf?src-supplier=Arrow+Electronics; ComponentLink25URL: https://datasheet.octopart.com:443/TL431IDBZR-Texas-Instruments-datasheet-10218417.pdf?src-supplier=element14; ComponentLink25Description: https://datasheet.octopart.com:443/TL431IDBZR-Texas-Instruments-datasheet-10218417.pdf?src-supplier=element14; ComponentLink26URL: https://datasheet.octopart.com:443/TL431IDBZR-Texas-Instruments-datasheet-10027895.pdf?src-supplier=element14; ComponentLink26Description: https://datasheet.octopart.com:443/TL431IDBZR-Texas-Instruments-datasheet-10027895.pdf?src-supplier=element14; ComponentLink27URL: https://datasheet.octopart.com:443/TL431IDBZR-Texas-Instruments-datasheet-8886313.pdf?src-supplier=element14; ComponentLink27Description: https://datasheet.octopart.com:443/TL431IDBZR-Texas-Instruments-datasheet-8886313.pdf?src-supplier=element14; ComponentLink28URL: https://datasheet.octopart.com:443/TL431IDBZR-Texas-Instruments-datasheet-8826676.pdf?src-supplier=element14; ComponentLink28Description: https://datasheet.octopart.com:443/TL431IDBZR-Texas-Instruments-datasheet-8826676.pdf?src-supplier=element14; ComponentLink29URL: https://datasheet.octopart.com:443/TL431IDBZR-Texas-Instruments-datasheet-8735770.pdf?src-supplier=element14; ComponentLink29Description: https://datasheet.octopart.com:443/TL431IDBZR-Texas-Instruments-datasheet-8735770.pdf?src-supplier=element14; ComponentLink30URL: https://datasheet.octopart.com:443/TL431IDBZR-Texas-Instruments-datasheet-8724803.pdf?src-supplier=element14; ComponentLink30Description: https://datasheet.octopart.com:443/TL431IDBZR-Texas-Instruments-datasheet-8724803.pdf?src-supplier=element14; ComponentLink31URL: https://datasheet.octopart.com:443/TL431IDBZR-Texas-Instruments-datasheet-8463480.pdf?src-supplier=element14; ComponentLink31Description: https://datasheet.octopart.com:443/TL431IDBZR-Texas-Instruments-datasheet-8463480.pdf?src-supplier=element14; ComponentLink32URL: https://datasheet.octopart.com:443/TL431IDBZR-Texas-Instruments-datasheet-7546206.pdf?src-supplier=element14; ComponentLink32Description: https://datasheet.octopart.com:443/TL431IDBZR-Texas-Instruments-datasheet-7546206.pdf?src-supplier=element14; ComponentLink33URL: https://datasheet.octopart.com:443/TL431IDBZR-Texas-Instruments-datasheet-5314698.pdf?src-supplier=element14; ComponentLink33Description: https://datasheet.octopart.com:443/TL431IDBZR-Texas-Instruments-datasheet-5314698.pdf?src-supplier=element14; ComponentLink34URL: https://datasheet.octopart.com:443/TL431IDBZR-Texas-Instruments-datasheet-8441549.pdf?src-supplier=Jameco; ComponentLink34Description: https://datasheet.octopart.com:443/TL431IDBZR-Texas-Instruments-datasheet-8441549.pdf?src-supplier=Jameco; ComponentLink35URL: https://datasheet.octopart.com:443/TL431IDBZR-Texas-Instruments-datasheet-153618.pdf?src-supplier=Mouser; ComponentLink35Description: https://datasheet.octopart.com:443/TL431IDBZR-Texas-Instruments-datasheet-153618.pdf?src-supplier=Mouser; ComponentLink36URL: https://datasheet.octopart.com:443/TL431IDBZR-Texas-Instruments-datasheet-3065.pdf?src-supplier=DigiKey; ComponentLink36Description: https://datasheet.octopart.com:443/TL431IDBZR-Texas-Instruments-datasheet-3065.pdf?src-supplier=DigiKey; ComponentLink37URL: https://datasheet.octopart.com:443/TL431IDBZR-Texas-Instruments-datasheet-112754.pdf?src-supplier=Sierra+IC; ComponentLink37Description: https://datasheet.octopart.com:443/TL431IDBZR-Texas-Instruments-datasheet-112754.pdf?src-supplier=Sierra+IC; ComponentLink38URL: http://sigma.octopart.com:80/reach_statement/Texas-Instruments-company-64.pdf?src-supplier=Compliance+Statements; ComponentLink38Description: http://sigma.octopart.com:80/reach_statement/Texas-Instruments-company-64.pdf?src-supplier=Compliance+Statements; ComponentLink39URL: http://sigma.octopart.com:80/conflict_mineral_statement/Texas-Instruments-company-63.pdf?src-supplier=Compliance+Statements; ComponentLink39Description: http://sigma.octopart.com:80/conflict_mineral_statement/Texas-Instruments-company-63.pdf?src-supplier=Compliance+Statements
footprint SOT-23-3
pins: 1 K, 2 REF, 3 A

## TOA RN73H1JTTD6423B50
designator R?, comment value 642k  (hidden comment: RN73H1JTTD6423B50)
Fixed Resistor, Thin Film, 0.1W, 642000ohm, 75V, 0.1% +/-Tol, Surface Mount, 0603; Manufacturer: KOA Speer; Power Rating: 100mW; Temperature Coefficient: 50ppm/°C; Supplier: DigiKey; Supplier Part Number: 2019-RN73H1JTTD6423B50CT-ND; Manufacturer Part Number: RN73H1JTTD6423B50; RoHS: Compliant; Category: Chip SMD Resistors; Stock: 6075; Pricing: 1=0,21, 10=0,18, 25=0,1668, 50=0,1576, 100=0,1488, 250=0,13828, 500=0,13108, 1000=0,12455 (USD); Case/Package: 0603; Case Code (Imperial): 0603; Case Code (Metric): 1608; Composition: Metal Film, Thin Film; Country of Origin: Japan; Export Control Classification Number (ECCN) Code: EAR99; Height: 450µm; Harmonized Tariff Schedule (HTS) Code: 8533.21.00.30; Introduction Date: 2013-02-03; Length: 1.6mm; Lifecycle Status: Production; Max Operating Temperature: 155°C; Min Operating Temperature: -55°C; Mounting Technology: Surface Mount; Number of Terminals: 2; Ratings: AEC-Q200; REACH SVHC: Yes; Termination: SMD/SMT; Tolerance: 0.1%; Voltage Rating: 75V; Width: 800µm; Working Voltage: 75V; ComponentLink1URL: https://datasheet.octopart.com:443/RN73H1JTTD6423B50-KOA-Speer-datasheet-182143700.pdf?src-supplier=IHS; ComponentLink1Description: https://datasheet.octopart.com:443/RN73H1JTTD6423B50-KOA-Speer-datasheet-182143700.pdf?src-supplier=IHS; ComponentLink2URL: https://datasheet.octopart.com:443/RN73H1JTTD6423B50-KOA-Speer-datasheet-149653818.pdf?src-supplier=element14+APAC; ComponentLink2Description: https://datasheet.octopart.com:443/RN73H1JTTD6423B50-KOA-Speer-datasheet-149653818.pdf?src-supplier=element14+APAC; ComponentLink3URL: http://sigma.octopart.com:80/rohs_statement/KOA-Speer-company-17.pdf?src-supplier=Compliance+Statements; ComponentLink3Description: http://sigma.octopart.com:80/rohs_statement/KOA-Speer-company-17.pdf?src-supplier=Compliance+Statements
footprint res_0603
pins: 1, 2

## Toshiba TLP5702(E
designator U?, comment TLP5702(E
Optocoupler DC-IN Single Totem-Pole-OUT 6-Pin SOIC Magazine; Manufacturer: Toshiba; Forward Current: 10mA; Isolation Voltage: 5000Vrms; Min Supply Voltage: 15V; Number of Circuits: 1; Propagation Delay: 200ns; Response Time: 15ns; Supplier: DigiKey; Supplier Part Number: TLP5702(E-ND; Manufacturer Part Number: TLP5702(E; RoHS: Compliant; Category: Digital Isolators; Stock: 95; Pricing: 1=1,44, 10=1,018, 125=0,74496, 500=0,65032, 1000=0,61339, 2000=0,58209, 5000=0,54792, 10000=0,52666 (USD); Case/Package: SO; Lifecycle Status: Production; Max Operating Temperature: 100°C; Min Operating Temperature: -40°C; Mounting Technology: Surface Mount; Number of Elements: 1; Packaging: Bulk; Radiation Hardening: No; Schedule B: 8541408000; ComponentLink1URL: https://datasheet.octopart.com:443/TLP5702%28E-Toshiba-datasheet-181397918.pdf?src-supplier=IHS; ComponentLink1Description: https://datasheet.octopart.com:443/TLP5702%28E-Toshiba-datasheet-181397918.pdf?src-supplier=IHS
footprint TOSHIBA: 11-4N1A
pins: 1 AN, 2 NC, 3 CA, 4 GND, 5 VO (oc), 6 VCC (power)

## Vishay CRCW06032R00FKEA
designator R?, comment value 2  (hidden comment: CRCW06032R00FKEA)
Res Thick Film 0603 2 Ohm 1% 0.1W(1/10W) ±100ppm/C Pad SMD T/R Automotive AEC-Q200; Manufacturer: Vishay; Power Rating: 100mW; Temperature Coefficient: 100ppm/°C; Voltage Rating: 75V; Supplier: Farnell; Supplier Part Number: CRCW06032R00FKEA; Manufacturer Part Number: CRCW06032R00FKEA; RoHS: Compliant; Category: Chip SMD Resistors; Stock: 30000; Pricing: 5000=0,0172 (GBP); Case/Package: 0603; Case Code (Imperial): 0603; Case Code (Metric): 1608; China RoHS: Non-Compliant; Composition: Thick Film; Contact Plating: Tin; Depth: 850µm; Height: 450µm; Lead Free: Lead Free; Length: 1.55mm; Lifecycle Status: Production; Max Operating Temperature: 155°C; Military Standard: Not; Min Operating Temperature: -55°C; Mounting Technology: Surface Mount; Pins: 2; Number of Terminals: 2; Packaging: Cut Tape; Radiation Hardening: No; Ratings: AEC-Q200; REACH SVHC: Yes; Schedule B: 8533210045, 8533210045|8533210045, 8533210045|8533210045|8533210045, 8533210045|8533210045|8533210045|8533210045; Termination: SMD/SMT; Tolerance: 1%; Voltage Rating (DC): 75V; Weight: 2.012816mg; Width: 850µm; Working Voltage: 75V; ComponentLink1URL: https://datasheet.octopart.com:443/CRCW06032R00FKEA-Vishay-datasheet-175423584.pdf?src-supplier=IHS; ComponentLink1Description: https://datasheet.octopart.com:443/CRCW06032R00FKEA-Vishay-datasheet-175423584.pdf?src-supplier=IHS; ComponentLink2URL: https://datasheet.octopart.com:443/CRCW06032R00FKEA-Vishay-datasheet-62316122.pdf?src-supplier=Future+Electronics; ComponentLink2Description: https://datasheet.octopart.com:443/CRCW06032R00FKEA-Vishay-datasheet-62316122.pdf?src-supplier=Future+Electronics; ComponentLink3URL: https://datasheet.octopart.com:443/CRCW06032R00FKEA-Vishay-datasheet-12519820.pdf?src-supplier=Future+Electronics; ComponentLink3Description: https://datasheet.octopart.com:443/CRCW06032R00FKEA-Vishay-datasheet-12519820.pdf?src-supplier=Future+Electronics; ComponentLink4URL: https://datasheet.octopart.com:443/CRCW06032R00FKEA-Vishay-datasheet-83961561.pdf?src-supplier=Newark; ComponentLink4Description: https://datasheet.octopart.com:443/CRCW06032R00FKEA-Vishay-datasheet-83961561.pdf?src-supplier=Newark; ComponentLink5URL: https://datasheet.octopart.com:443/CRCW06032R00FKEA-Vishay-datasheet-66077789.pdf?src-supplier=Newark; ComponentLink5Description: https://datasheet.octopart.com:443/CRCW06032R00FKEA-Vishay-datasheet-66077789.pdf?src-supplier=Newark; ComponentLink6URL: https://datasheet.octopart.com:443/CRCW06032R00FKEA-Vishay-datasheet-62317937.pdf?src-supplier=element14+APAC; ComponentLink6Description: https://datasheet.octopart.com:443/CRCW06032R00FKEA-Vishay-datasheet-62317937.pdf?src-supplier=element14+APAC; ComponentLink7URL: https://datasheet.octopart.com:443/CRCW06032R00FKEA-Vishay-datasheet-41302739.pdf?src-supplier=element14+APAC; ComponentLink7Description: https://datasheet.octopart.com:443/CRCW06032R00FKEA-Vishay-datasheet-41302739.pdf?src-supplier=element14+APAC; ComponentLink8URL: https://datasheet.octopart.com:443/CRCW06032R00FKEA-Vishay-datasheet-27121962.pdf?src-supplier=element14+APAC; ComponentLink8Description: https://datasheet.octopart.com:443/CRCW06032R00FKEA-Vishay-datasheet-27121962.pdf?src-supplier=element14+APAC; ComponentLink9URL: https://datasheet.octopart.com:443/CRCW06032R00FKEA-Vishay-datasheet-66077788.pdf?src-supplier=element14+APAC; ComponentLink9Description: https://datasheet.octopart.com:443/CRCW06032R00FKEA-Vishay-datasheet-66077788.pdf?src-supplier=element14+APAC; ComponentLink10URL: https://datasheet.octopart.com:443/CRCW06032R00FKEA-Vishay-Dale-datasheet-47688880.pdf?src-supplier=RS+(Formerly+Allied+Electronics); ComponentLink10Description: https://datasheet.octopart.com:443/CRCW06032R00FKEA-Vishay-Dale-datasheet-47688880.pdf?src-supplier=RS+(Formerly+Allied+Electronics); ComponentLink11URL: https://datasheet.octopart.com:443/CRCW06032R00FKEA-Vishay-datasheet-12001583.pdf?src-supplier=RS+(Formerly+Allied+Electronics); ComponentLink11Description: https://datasheet.octopart.com:443/CRCW06032R00FKEA-Vishay-datasheet-12001583.pdf?src-supplier=RS+(Formerly+Allied+Electronics); ComponentLink12URL: https://datasheet.octopart.com:443/CRCW06032R00FKEA-Vishay-datasheet-5306405.pdf?src-supplier=RS+(Formerly+Allied+Electronics); ComponentLink12Description: https://datasheet.octopart.com:443/CRCW06032R00FKEA-Vishay-datasheet-5306405.pdf?src-supplier=RS+(Formerly+Allied+Electronics); ComponentLink13URL: https://datasheet.octopart.com:443/CRCW06032R00FKEA-Vishay-datasheet-11540273.pdf?src-supplier=Arrow+Electronics; ComponentLink13Description: https://datasheet.octopart.com:443/CRCW06032R00FKEA-Vishay-datasheet-11540273.pdf?src-supplier=Arrow+Electronics; ComponentLink14URL: http://sigma.octopart.com:80/rohs_statement/Vishay-company-15.pdf?src-supplier=Compliance+Statements; ComponentLink14Description: http://sigma.octopart.com:80/rohs_statement/Vishay-company-15.pdf?src-supplier=Compliance+Statements
footprint res_0603
pins: 1, 2